# EAGLE library part REF5025AIDGKT (library ds_ic_peripherals)
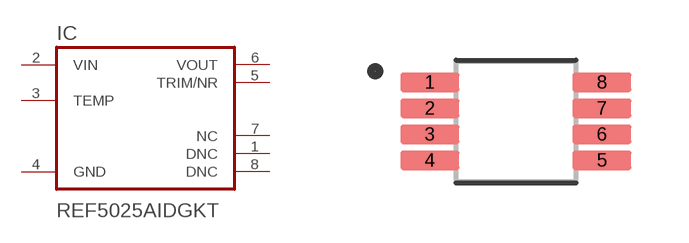
[diagram p73: symbol with the pads of VSSOP8; footprint VSSOP8]

Designator prefix IC

## REF5025AIDGKT (DATASHEET: https://www.ti.com/lit/ds/symlink/ref50.pdf; DESCRIPTION: -40℃~+125℃@(Ta) 1.2mA 10mA 2.5V 2.7V~18V 3uVp-p 8ppm/℃ Fixed Series ±0.1% VSSOP-8-0.65mm Voltage Reference ROHS; LCSC_PART: C75881; MANUFACTURER: Texas Instruments; MPN: REF5025AIDGKT; ROHS: YES; VALUE: REF5025AIDGKT)  [VSSOP8]
1  DNC
2  VIN  in
3  TEMP  in
4  GND  pwr
5  TRIM/NR  in
6  VOUT  out
7  NC
8  DNC

## Footprint VSSOP8 (pad centres in mm)
smd 1.47 x 0.48: 1 -2.15,0.975; 2 -2.15,0.325; 3 -2.15,-0.325; 4 -2.15,-0.975; 5 2.15,-0.975; 6 2.15,-0.325; 7 2.15,0.325; 8 2.15,0.975